# Altium schematic symbol library CORE28335.SCHLIB: 23 symbols
Pins are listed as number, name and electrical type; pins without a type are passive.

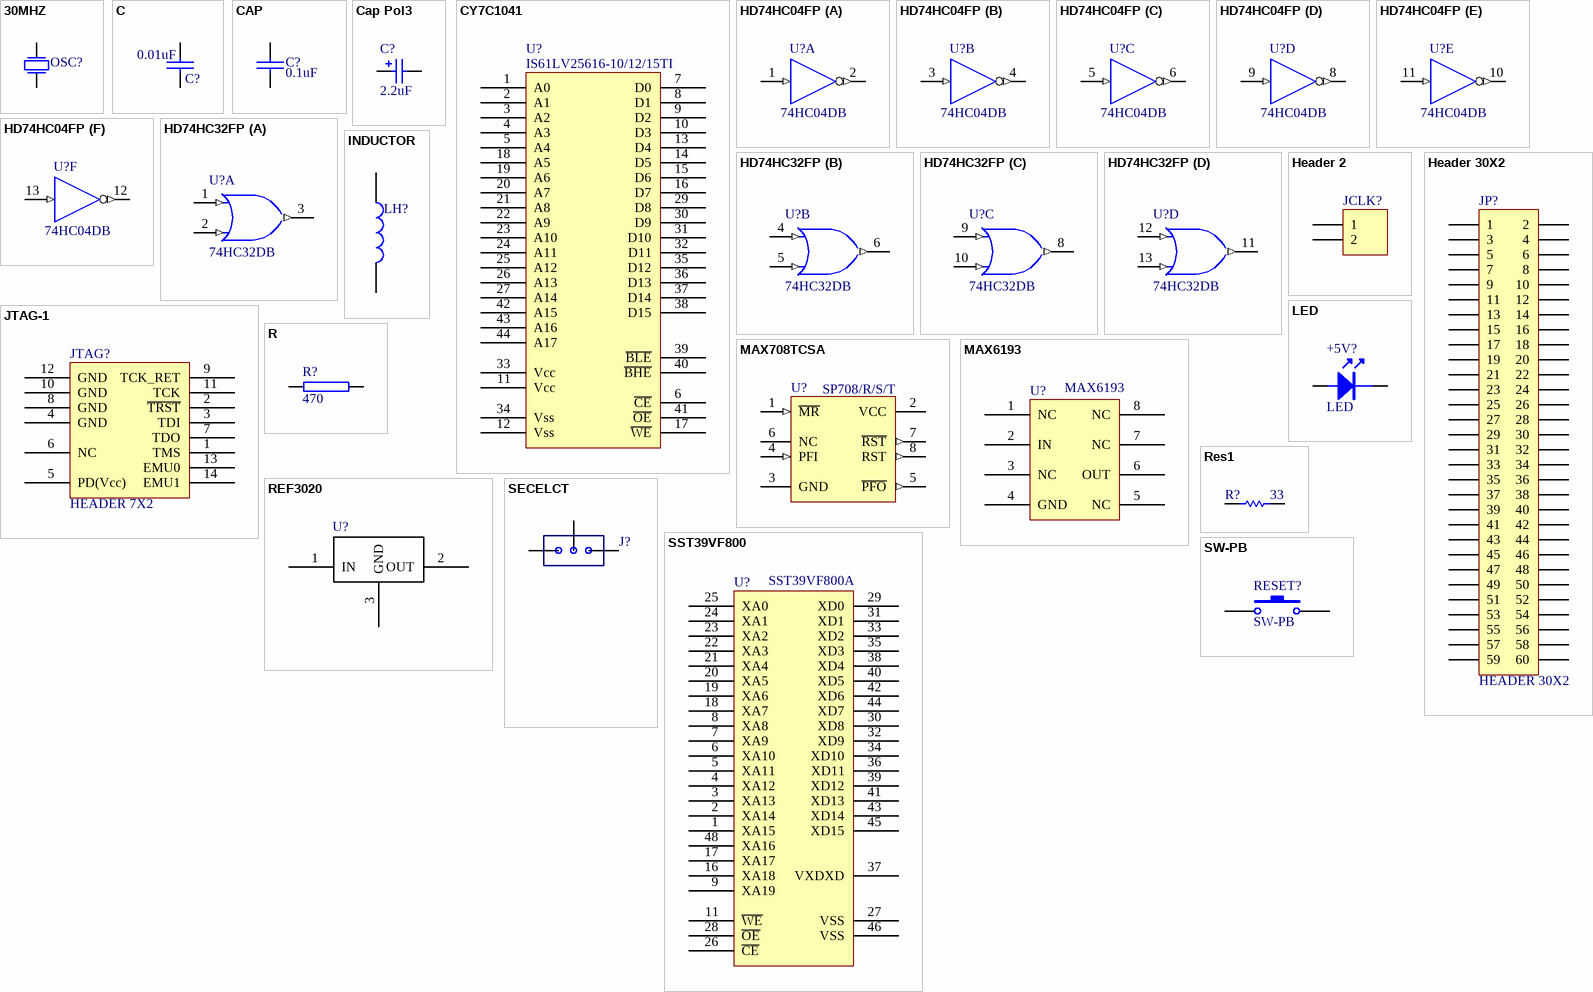
[diagram p0: symbols 30MHZ to SW-PB]

## 30MHZ
designator OSC?
Crystal Oscillator
simulation model 30MHZ (SUBCKT)
footprint XTAL62/28
footprint XTAL1
pins: 1 P1, 2 P2

## C
designator C?, comment 0.01uF
footprint C1
footprint C2
footprint C3
footprint C4
footprint 0603
footprint 0805
pins: 1, 2
2 alternate drawings of the same symbol

## CAP
designator C?, comment 0.1uF
Capacitor
footprint 0805
pins: 1, 2

## Cap Pol3
designator C?, comment 2.2uF
Polarized Capacitor (Surface Mount); Value: 0.1uF/50V/X7R; Published: 8-Jun-2000; LatestRevisionDate: 29-May-2009; LatestRevisionNote: IPC-7351 Footprint Added.; PackageReference: C0805; Publisher: Altium Limited; PackageDescription: Chip Capacitor
footprint CAPC2012L (Chip Capacitor, Body 2.0x1.3mm, IPC High Density)
footprint CAPC4532L (Chip Capacitor, Body 4.5x3.2mm, IPC High Density)
footprint CAPC4564L (Chip Capacitor, Body 4.5x6.4mm, IPC High Density)
footprint CAPC5764L (Chip Capacitor, Body 5.7x6.4mm, IPC High Density)
footprint CAPC5750L (Chip Capacitor, Body 5.7x5.0mm, IPC High Density)
simulation model CAP (Capacitor)
signal-integrity model Cap Pol
footprint 1206 (Footprint not found)
footprint 0805
pins: 1, 2
1 alternate drawing of the same symbol

## CY7C1041
designator U?, comment IS61LV25616-10/12/15TI
footprint TSOP-44
footprint TSOP II Z44
pins: 1 A0, 2 A1, 3 A2, 4 A3, 5 A4, 6 ~{CE}, 7 D0, 8 D1, 9 D2, 10 D3, 11 Vcc, 12 Vss, 13 D4, 14 D5, 15 D6, 16 D7, 17 ~{WE}, 18 A5, 19 A6, 20 A7, 21 A8, 22 A9, 23 A10, 24 A11, 25 A12, 26 A13, 27 A14, 29 D8, 30 D9, 31 D10, 32 D11, 33 Vcc, 34 Vss, 35 D12, 36 D13, 37 D14, 38 D15, 39 ~{BLE}, 40 ~{BHE}, 41 ~{OE}, 42 A15, 43 A16, 44 A17
2 alternate drawings of the same symbol

## HD74HC04FP
designator U?, comment 74HC04DB
Hex Inverters; Published: 10-Feb-2010; DatasheetVersion: Rev.2.00, Oct-2005; PackageVersion: Sep-2005; PackageReference: PRSP0014DF-B; Publisher: Altium Limited; PackageDescription: 14-Pin Plastic Small Outline Package, 10.06 x 5.5 mm Body, 1.27 mm Pitch; Code_JEITA: P-SOP14-5.5x10.06-1.27; ComponentLink1Description: Manufacturer Link; ComponentLink1URL: http://sg.renesas.com/fmwk.jsp?cnt=hd74hc_root.jsp&fp=/products/standard_ic/general_purpose_logic/5v_standard_logic/hd74hc/; ComponentLink2Description: Datasheet; ComponentLink2URL: http://documentation.renesas.com/eng/products/logic/rej03d0534_hd74hc04ds.pdf; ComponentLink3Description: Packaging Specification; ComponentLink3URL: http://sg.renesas.com/media/products/common_info/package/pdf/ic/code/prsp0014df_b.pdf
footprint PRSP0014DF-B_N (SOP, 14-Leads, Body 10.06x5.5mm, Pitch 1.27mm, IPC Medium Density)
footprint PRSP0014DF-B_L (SOP, 14-Leads, Body 10.06x5.5mm, Pitch 1.27mm, IPC High Density)
footprint PRSP0014DF-B_M (SOP, 14-Leads, Body 10.06x5.5mm, Pitch 1.27mm, IPC Low Density)
footprint SSOP14
pins on every part: 7 GND (power) hidden, 14 VCC (power) hidden
part A pins: 1 1A (in), 2 1~{Y} (out)
part B pins: 3 2A (in), 4 2~{Y} (out)
part C pins: 5 3A (in), 6 3~{Y} (out)
part D pins: 8 4~{Y} (out), 9 4A (in)
part E pins: 10 5~{Y} (out), 11 5A (in)
part F pins: 12 6~{Y} (out), 13 6A (in)

## HD74HC32FP
designator U?, comment 74HC32DB
Quad 2-Input OR Gates; Published: 10-Feb-2010; DatasheetVersion: Rev.2.00, Oct-2005; PackageVersion: Sep-2005; PackageReference: PRSP0014DF-B; Publisher: Altium Limited; PackageDescription: 14-Pin Plastic Small Outline Package, 10.06 x 5.5 mm Body, 1.27 mm Pitch; Code_JEITA: P-SOP14-5.5x10.06-1.27; ComponentLink1Description: Manufacturer Link; ComponentLink1URL: http://sg.renesas.com/fmwk.jsp?cnt=hd74hc_root.jsp&fp=/products/standard_ic/general_purpose_logic/5v_standard_logic/hd74hc/; ComponentLink2Description: Datasheet; ComponentLink2URL: http://documentation.renesas.com/eng/products/logic/rej03d0545_hd74hc32ds.pdf; ComponentLink3Description: Packaging Specification; ComponentLink3URL: http://sg.renesas.com/media/products/common_info/package/pdf/ic/code/prsp0014df_b.pdf
footprint PRSP0014DF-B_N (SOP, 14-Leads, Body 10.06x5.5mm, Pitch 1.27mm, IPC Medium Density)
footprint PRSP0014DF-B_L (SOP, 14-Leads, Body 10.06x5.5mm, Pitch 1.27mm, IPC High Density)
footprint PRSP0014DF-B_M (SOP, 14-Leads, Body 10.06x5.5mm, Pitch 1.27mm, IPC Low Density)
footprint SSOP14
pins on every part: 7 GND (power) hidden, 14 VCC (power) hidden
part A pins: 1 1A (in), 2 1B (in), 3 1Y (out)
part B pins: 4 2A (in), 5 2B (in), 6 2Y (out)
part C pins: 8 3Y (out), 9 3A (in), 10 3B (in)
part D pins: 11 4Y (out), 12 4A (in), 13 4B (in)

## Header 2
designator JCLK?
Header, 2-Pin; LatestRevisionDate: 17-Jul-2002; LatestRevisionNote: Re-released for DXP Platform.; Publisher: Altium Limited
footprint HDR1X2 (Connector; Header; 2 Position)
signal-integrity model Connector
footprint TTIP2
pins: 1, 2

## Header 30X2
designator JP?, comment HEADER 30X2
Header, 30-Pin, Dual row; LatestRevisionDate: 17-Jul-2002; LatestRevisionNote: Re-released for DXP Platform.; Publisher: Altium Limited
footprint HDR2X30 (Connector; Header; 30x2 Position)
signal-integrity model Connector
footprint TTIP30X2
pins: 1, 2, 3, 4, 5, 6, 7, 8, 9, 10, 11, 12, 13, 14, 15, 16, 17, 18, 19, 20, 21, 22, 23, 24, 25, 26, 27, 28, 29, 30, 31, 32, 33, 34, 35, 36, 37, 38, 39, 40, 41, 42, 43, 44, 45, 46, 47, 48, 49, 50, 51, 52, 53, 54, 55, 56, 57, 58, 59, 60

## INDUCTOR
designator LH?
footprint 1206 (Footprint not found)
footprint 3216
pins: 1, 2
2 alternate drawings of the same symbol

## JTAG-1
designator JTAG?, comment HEADER 7X2
footprint IDC14-A-JATG (Footprint not found)
pins: 1 TMS, 2 ~{TRST}, 3 TDI, 4 GND, 5 PD(Vcc), 6 NC, 7 TDO, 8 GND, 9 TCK_RET, 10 GND, 11 TCK, 12 GND, 13 EMU0, 14 EMU1
2 alternate drawings of the same symbol

## LED
designator +5V?
footprint LED1
footprint LED1/2
footprint LED0805-JW
footprint 1N60P
pins: A, K
2 alternate drawings of the same symbol

## MAX708TCSA
designator U?, comment SP708/R/S/T
+3V Voltage Monitoring, Low-Cost, µP Supervisory Circuit; Published: 16-Jan-2001; LatestRevisionDate: 13-Apr-2006; LatestRevisionNote: IPC-7351 Footprint Added.; DatasheetVersion: Sep-1995; PackageReference: NSO8; Publisher: Altium Limited; PackageDescription: 8-Pin Small Outline Integrated Circuit 1.27 mm Pitch; Code_JEDEC: MS-012-AA; Code_IPC: SOIC127P600-8; ComponentLink1Description: Manufacturer Link; ComponentLink1URL: http://www.maxim-ic.com/; ComponentLink2Description: Datasheet; ComponentLink2URL: http://pdfserv.maxim-ic.com/en/ds/MAX706P-MAX708T.pdf
footprint NSO8_N (SOIC, 8-Leads, Body 4.9x3.9mm, Pitch 1.27mm, IPC Medium Density)
footprint NSO8_L (SOIC, 8-Leads, Body 4.9x3.9mm, Pitch 1.27mm, IPC High Density)
footprint NSO8_M (SOIC, 8-Leads, Body 4.9x3.9mm, Pitch 1.27mm, IPC Low Density)
3D model NSO8 (8-Pin Small Outline Integrated Circuit 1.27 mm Pitch)
footprint SOIC-8
pins: 1 ~{MR} (in), 2 VCC (power), 3 GND (power), 4 PFI (in), 5 ~{PFO} (out), 6 NC, 7 ~{RST} (out), 8 RST (out)

## MAX6193
designator U?
footprint SO-8
pins: 1 NC, 2 IN, 3 NC, 4 GND, 5 NC, 6 OUT, 7 NC, 8 NC

## R
designator R?, comment 470
footprint AXIAL0.4
footprint R4
footprint 0805
footprint 0603
pins: 1, 2
2 alternate drawings of the same symbol

## REF3020
designator U?
pins: 1 IN, 2 OUT, 3 GND

## Res1
designator R?  value 33
Resistor; Published: 8-Jun-2000; LatestRevisionDate: 17-Jul-2002; LatestRevisionNote: Re-released for DXP Platform.; PackageReference: AXIAL-0.3; Publisher: Altium Limited
footprint 0805 (Footprint not found)
simulation model RESISTOR (Resistor)
signal-integrity model Res
pins: 1, 2

## SECELCT
designator J?
footprint TTIP3 (Footprint not found)
pins: 1, 2, 3

## SST39VF800
designator U?, comment SST39VF800A
footprint TSOP48 (Footprint not found)
pins: 1 XA15, 2 XA14, 3 XA13, 4 XA12, 5 XA11, 6 XA10, 7 XA9, 8 XA8, 9 XA19, 11 ~{WE}, 16 XA18, 17 XA17, 18 XA7, 19 XA6, 20 XA5, 21 XA4, 22 XA3, 23 XA2, 24 XA1, 25 XA0, 26 ~{CE}, 27 VSS, 28 ~{OE}, 29 XD0, 30 XD8, 31 XD1, 32 XD9, 33 XD2, 34 XD10, 35 XD3, 36 XD11, 37 VXDXD, 38 XD4, 39 XD12, 40 XD5, 41 XD13, 42 XD6, 43 XD14, 44 XD7, 45 XD15, 46 VSS, 48 XA16

## SW-PB
designator RESET?
Switch; Published: 24-Mar-1999; LatestRevisionDate: 17-Jul-2002; LatestRevisionNote: Re-released for DXP Platform.; PackageReference: SPST-2; Publisher: Altium Limited
footprint sop2
footprint KEY2
pins: 1, 2

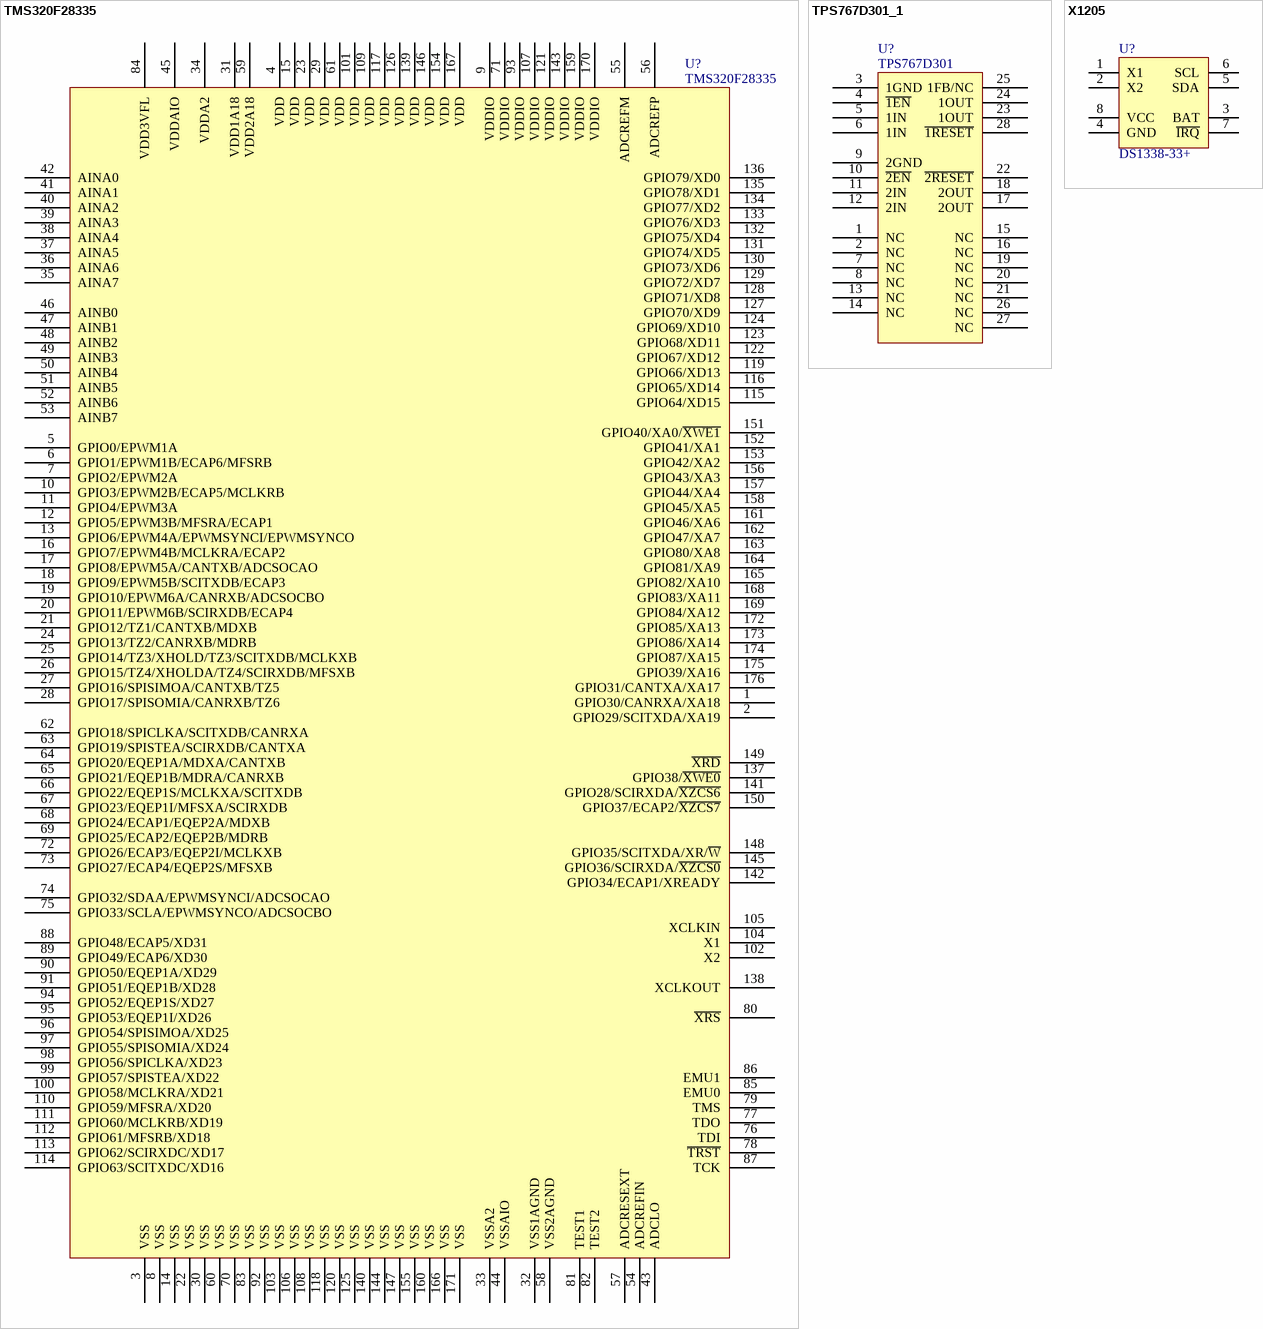
[diagram p1: symbols TMS320F28335 to X1205]

## TMS320F28335
designator U?
footprint QFP176
footprint LQFP-176
pins: 1 GPIO30/CANRXA/XA18, 2 GPIO29/SCITXDA/XA19, 3 VSS, 4 VDD, 5 GPIO0/EPWM1A, 6 GPIO1/EPWM1B/ECAP6/MFSRB, 7 GPIO2/EPWM2A, 8 VSS, 9 VDDIO, 10 GPIO3/EPWM2B/ECAP5/MCLKRB, 11 GPIO4/EPWM3A, 12 GPIO5/EPWM3B/MFSRA/ECAP1, 13 GPIO6/EPWM4A/EPWMSYNCI/EPWMSYNCO, 14 VSS, 15 VDD, 16 GPIO7/EPWM4B/MCLKRA/ECAP2, 17 GPIO8/EPWM5A/CANTXB/ADCSOCAO, 18 GPIO9/EPWM5B/SCITXDB/ECAP3, 19 GPIO10/EPWM6A/CANRXB/ADCSOCBO, 20 GPIO11/EPWM6B/SCIRXDB/ECAP4, 21 GPIO12/TZ1/CANTXB/MDXB, 22 VSS, 23 VDD, 24 GPIO13/TZ2/CANRXB/MDRB, 25 GPIO14/TZ3/XHOLD/TZ3/SCITXDB/MCLKXB, 26 GPIO15/TZ4/XHOLDA/TZ4/SCIRXDB/MFSXB, 27 GPIO16/SPISIMOA/CANTXB/TZ5, 28 GPIO17/SPISOMIA/CANRXB/TZ6, 29 VDD, 30 VSS, 31 VDD1A18, 32 VSS1AGND, 33 VSSA2, 34 VDDA2, 35 AINA7, 36 AINA6, 37 AINA5, 38 AINA4, 39 AINA3, 40 AINA2, 41 AINA1, 42 AINA0, 43 ADCLO, 44 VSSAIO, 45 VDDAIO, 46 AINB0, 47 AINB1, 48 AINB2, 49 AINB3, 50 AINB4, 51 AINB5, 52 AINB6, 53 AINB7, 54 ADCREFIN, 55 ADCREFM, 56 ADCREFP, 57 ADCRESEXT, 58 VSS2AGND, 59 VDD2A18, 60 VSS, 61 VDD, 62 GPIO18/SPICLKA/SCITXDB/CANRXA, 63 GPIO19/SPISTEA/SCIRXDB/CANTXA, 64 GPIO20/EQEP1A/MDXA/CANTXB, 65 GPIO21/EQEP1B/MDRA/CANRXB, 66 GPIO22/EQEP1S/MCLKXA/SCITXDB, 67 GPIO23/EQEP1I/MFSXA/SCIRXDB, 68 GPIO24/ECAP1/EQEP2A/MDXB, 69 GPIO25/ECAP2/EQEP2B/MDRB, 70 VSS, 71 VDDIO, 72 GPIO26/ECAP3/EQEP2I/MCLKXB, 73 GPIO27/ECAP4/EQEP2S/MFSXB, 74 GPIO32/SDAA/EPWMSYNCI/ADCSOCAO, 75 GPIO33/SCLA/EPWMSYNCO/ADCSOCBO, 76 TDI, 77 TDO, 78 ~{TRST}, 79 TMS, 80 ~{XRS}, 81 TEST1, 82 TEST2, 83 VSS, 84 VDD3VFL, 85 EMU0, 86 EMU1, 87 TCK, 88 GPIO48/ECAP5/XD31, 89 GPIO49/ECAP6/XD30, 90 GPIO50/EQEP1A/XD29, 91 GPIO51/EQEP1B/XD28, 92 VSS, 93 VDDIO, 94 GPIO52/EQEP1S/XD27, 95 GPIO53/EQEP1I/XD26, 96 GPIO54/SPISIMOA/XD25, 97 GPIO55/SPISOMIA/XD24, 98 GPIO56/SPICLKA/XD23, 99 GPIO57/SPISTEA/XD22, 100 GPIO58/MCLKRA/XD21, 101 VDD, 102 X2, 103 VSS, 104 X1, 105 XCLKIN, 106 VSS, 107 VDDIO, 108 VSS, 109 VDD, 110 GPIO59/MFSRA/XD20, 111 GPIO60/MCLKRB/XD19, 112 GPIO61/MFSRB/XD18, 113 GPIO62/SCIRXDC/XD17, 114 GPIO63/SCITXDC/XD16, 115 GPIO64/XD15, 116 GPIO65/XD14, 117 VDD, 118 VSS, 119 GPIO66/XD13, 120 VSS, 121 VDDIO, 122 GPIO67/XD12, 123 GPIO68/XD11, 124 GPIO69/XD10, 125 VSS, 126 VDD, 127 GPIO70/XD9, 128 GPIO71/XD8, 129 GPIO72/XD7, 130 GPIO73/XD6, 131 GPIO74/XD5, 132 GPIO75/XD4, 133 GPIO76/XD3, 134 GPIO77/XD2, 135 GPIO78/XD1, 136 GPIO79/XD0, 137 GPIO38/~{XWE0}, 138 XCLKOUT, 139 VDD, 140 VSS, 141 GPIO28/SCIRXDA/~{XZCS6}, 142 GPIO34/ECAP1/XREADY, 143 VDDIO, 144 VSS, 145 GPIO36/SCIRXDA/~{XZCS0}, 146 VDD, 147 VSS, 148 GPIO35/SCITXDA/XR/~{W}, 149 ~{XRD}, 150 GPIO37/ECAP2/~{XZCS7}, 151 GPIO40/XA0/~{XWE1}, 152 GPIO41/XA1, 153 GPIO42/XA2, 154 VDD, 155 VSS, 156 GPIO43/XA3, 157 GPIO44/XA4, 158 GPIO45/XA5, 159 VDDIO, 160 VSS, 161 GPIO46/XA6, 162 GPIO47/XA7, 163 GPIO80/XA8, 164 GPIO81/XA9, 165 GPIO82/XA10, 166 VSS, 167 VDD, 168 GPIO83/XA11, 169 GPIO84/XA12, 170 VDDIO, 171 VSS, 172 GPIO85/XA13, 173 GPIO86/XA14, 174 GPIO87/XA15, 175 GPIO39/XA16, 176 GPIO31/CANTXA/XA17
2 alternate drawings of the same symbol

## TPS767D301_1
designator U?, comment TPS767D301
footprint TSOP-28
footprint tsop-28 (Footprint not found)
pins: 1 NC, 2 NC, 3 1GND, 4 ~{1EN}, 5 1IN, 6 1IN, 7 NC, 8 NC, 9 2GND, 10 ~{2EN}, 11 2IN, 12 2IN, 13 NC, 14 NC, 15 NC, 16 NC, 17 2OUT, 18 2OUT, 19 NC, 20 NC, 21 NC, 22 ~{2RESET}, 23 1OUT, 24 1OUT, 25 1FB/NC, 26 NC, 27 NC, 28 ~{1RESET}
2 alternate drawings of the same symbol

## X1205
designator U?, comment DS1338-33+
footprint SO-8
footprint SO-08
pins: 1 X1, 2 X2, 3 BAT, 4 GND, 5 SDA, 6 SCL, 7 ~{IRQ}, 8 VCC